# Altium integrated library SONiX Audio Processor.IntLib: 3 symbols
Pins are listed as number, name and electrical type; pins without a type are passive.

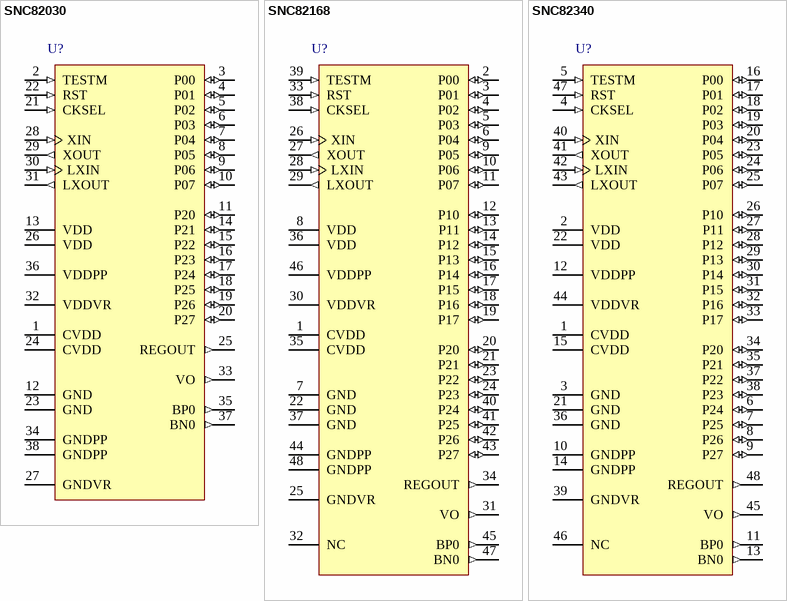
[diagram p0: symbols SNC82030 to SNC82340]

## SNC82030
designator U?
12-Channel MIDI/Speech Controller, 2.4V - 5.5V range, 16 I/Os, 96K x 12 Shared ROM, Chip Form; PackageForm: Supplied as a Die.; Published: 30-Mar-2007; DatasheetVersion: Ver1.5, Sep-2006; PackageReference: Chip_Form; Publisher: Altium Limited; ComponentLink1Description: Manufacturer Link; ComponentLink1URL: http://www.sonix.com.tw/sonix/home.do; ComponentLink2Description: Datasheet; ComponentLink2URL: http://www.sonix.com.tw/sonix/download.do?d=1534,1
pins: 1 CVDD (power), 2 TESTM (in), 3 P00 (io), 4 P01 (io), 5 P02 (io), 6 P03 (io), 7 P04 (io), 8 P05 (io), 9 P06 (io), 10 P07 (io), 11 P20 (io), 12 GND (power), 13 VDD (power), 14 P21 (io), 15 P22 (io), 16 P23 (io), 17 P24 (io), 18 P25 (io), 19 P26 (io), 20 P27 (io), 21 CKSEL (in), 22 RST (in), 23 GND (power), 24 CVDD (power), 25 REGOUT (out), 26 VDD (power), 27 GNDVR (power), 28 XIN (in), 29 XOUT (out), 30 LXIN (in), 31 LXOUT (out), 32 VDDVR (power), 33 VO (out), 34 GNDPP (power), 35 BP0 (out), 36 VDDPP (power), 37 BN0 (out), 38 GNDPP (power)

## SNC82168
designator U?
12-Channel MIDI/Speech Controller, 2.4V - 5.5V range, 24 I/Os, 512K x 12 Shared ROM, Chip Form; PackageForm: Supplied as a Die.; Published: 30-Mar-2007; DatasheetVersion: Ver1.5, Sep-2006; PackageReference: Chip_Form; Publisher: Altium Limited; ComponentLink1Description: Manufacturer Link; ComponentLink1URL: http://www.sonix.com.tw/sonix/home.do; ComponentLink2Description: Datasheet; ComponentLink2URL: http://www.sonix.com.tw/sonix/download.do?d=1539,1
pins: 1 CVDD (power), 2 P00 (io), 3 P01 (io), 4 P02 (io), 5 P03 (io), 6 P04 (io), 7 GND (power), 8 VDD (power), 9 P05 (io), 10 P06 (io), 11 P07 (io), 12 P10 (io), 13 P11 (io), 14 P12 (io), 15 P13 (io), 16 P14 (io), 17 P15 (io), 18 P16 (io), 19 P17 (io), 20 P20 (io), 21 P21 (io), 22 GND (power), 23 P22 (io), 24 P23 (io), 25 GNDVR (power), 26 XIN (in), 27 XOUT (out), 28 LXIN (in), 29 LXOUT (out), 30 VDDVR (power), 31 VO (out), 32 NC, 33 RST (in), 34 REGOUT (out), 35 CVDD (power), 36 VDD (power), 37 GND (power), 38 CKSEL (in), 39 TESTM (in), 40 P24 (io), 41 P25 (io), 42 P26 (io), 43 P27 (io), 44 GNDPP (power), 45 BP0 (out), 46 VDDPP (power), 47 BN0 (out), 48 GNDPP (power)

## SNC82340
designator U?
12-Channel MIDI/Speech Controller, 2.4V - 5.5V range, 24 I/Os, 1M x 12 Shared ROM, Chip Form; PackageForm: Supplied as a Die.; Published: 30-Mar-2007; DatasheetVersion: Ver1.6, Sep-2006; PackageReference: Chip_Form; Publisher: Altium Limited; ComponentLink1Description: Manufacturer Link; ComponentLink1URL: http://www.sonix.com.tw/sonix/home.do; ComponentLink2Description: Datasheet; ComponentLink2URL: http://www.sonix.com.tw/sonix/download.do?d=1541,1
pins: 1 CVDD (power), 2 VDD (power), 3 GND (power), 4 CKSEL (in), 5 TESTM (in), 6 P24 (io), 7 P25 (io), 8 P26 (io), 9 P27 (io), 10 GNDPP (power), 11 BP0 (out), 12 VDDPP (power), 13 BN0 (out), 14 GNDPP (power), 15 CVDD (power), 16 P00 (io), 17 P01 (io), 18 P02 (io), 19 P03 (io), 20 P04 (io), 21 GND (power), 22 VDD (power), 23 P05 (io), 24 P06 (io), 25 P07 (io), 26 P10 (io), 27 P11 (io), 28 P12 (io), 29 P13 (io), 30 P14 (io), 31 P15 (io), 32 P16 (io), 33 P17 (io), 34 P20 (io), 35 P21 (io), 36 GND (power), 37 P22 (io), 38 P23 (io), 39 GNDVR (power), 40 XIN (in), 41 XOUT (out), 42 LXIN (in), 43 LXOUT (out), 44 VDDVR (power), 45 VO (out), 46 NC, 47 RST (in), 48 REGOUT (out)